# EAGLE library part GPS-622R (library 000001)
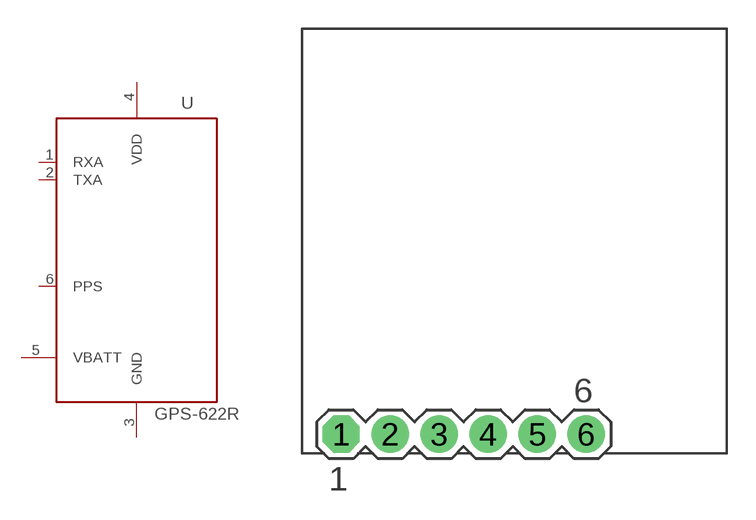
[diagram p108: symbol with the pads of GPS-622R; footprint GPS-622R]

Designator prefix -

## GPS-622R  [GPS-622R]
1  RXA  in
2  TXA  out
3  GND  pwr
4  VDD  pwr
5  VBATT  pwr
6  PPS  out

## Footprint GPS-622R (pad centres in mm)
drill 0.8 pad 1.93 octagon: 1 0,0
drill 0.8 pad 1.93 round: 2 2.54,0; 3 5.08,0; 4 7.62,0; 5 10.16,0; 6 12.7,0